# Altium footprint library 16SVF270M.PcbLib: 1 footprints
Each footprint in its own frame and in the unit in brackets; x right, y up, seen from the top. Pads: shape width x height; smd on the part's side, far side on the other; paste and mask are expansions set on the pad; w line width, h text height; cw(c..) or ccw(c..) is an arc to the next point about the centre after c.
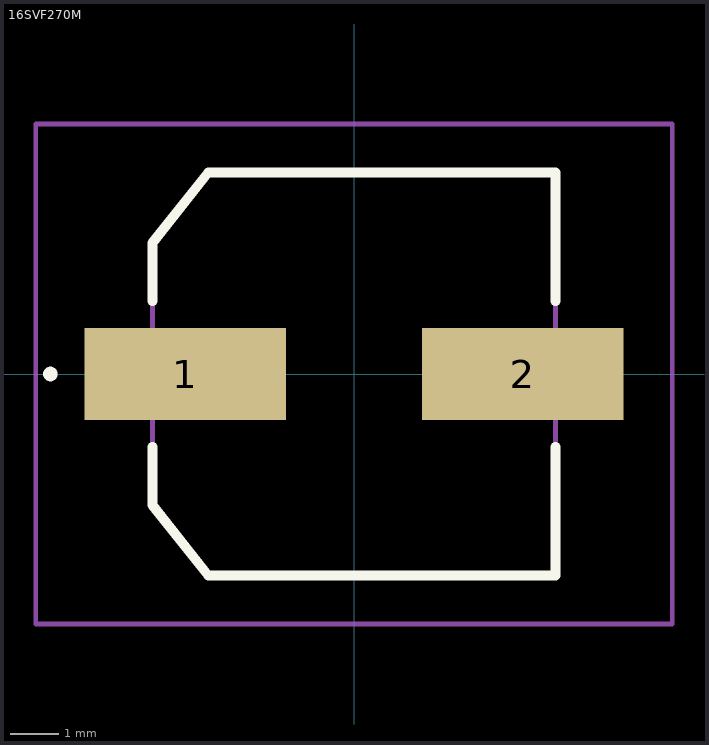
[diagram p0: the footprint, top view; thin cyan lines are the x and y axes]

## 16SVF270M [mm]
pads (2):
  rect 4.15x1.9 smd: 1(-3.475,0) 2(3.475,0)
Top Overlay:
  lines w0.2: -4.15,-1.5 -4.15,-2.7 -3,-4.15 4.15,-4.15 4.15,-1.5 ; -4.15,1.5 -4.15,2.7 -3,4.15 4.15,4.15 4.15,1.5 ; -6.3,0 -6.3,0 ; -6.3,0 ccw(c-6.25,0) -6.2,0 ; -6.3,0 cw(c-6.25,0) -6.2,0 ; -6.3,0 -6.3,0 ; -6.3,0 ccw(c-6.25,0) -6.2,0 ; -6.2,0 -6.2,0
Mechanical 15:
  lines w0.1: -4.15,-2.7 -3,-4.15 4.15,-4.15 4.15,4.15 -3,4.15 -4.15,2.7 -4.15,1.5 -4.15,-2.7
Mechanical 20:
  lines w0.1: -6.55,-5.15 6.55,-5.15 6.55,5.15 -6.55,5.15 -6.55,-5.15
3D body "35SVPD8R2M.stp": height 5.8, standoff -4.65, extent -10,-3.376 10,3.376